# Altium footprint library Intercom Gen2 Main PCB.PcbLib: 115 footprints (part 7 of 8)
Each footprint in its own frame and in the unit in brackets; x right, y up, seen from the top. Pads: shape width x height; smd on the part's side, far side on the other; paste and mask are expansions set on the pad; w line width, h text height; cw(c..) or ccw(c..) is an arc to the next point about the centre after c.
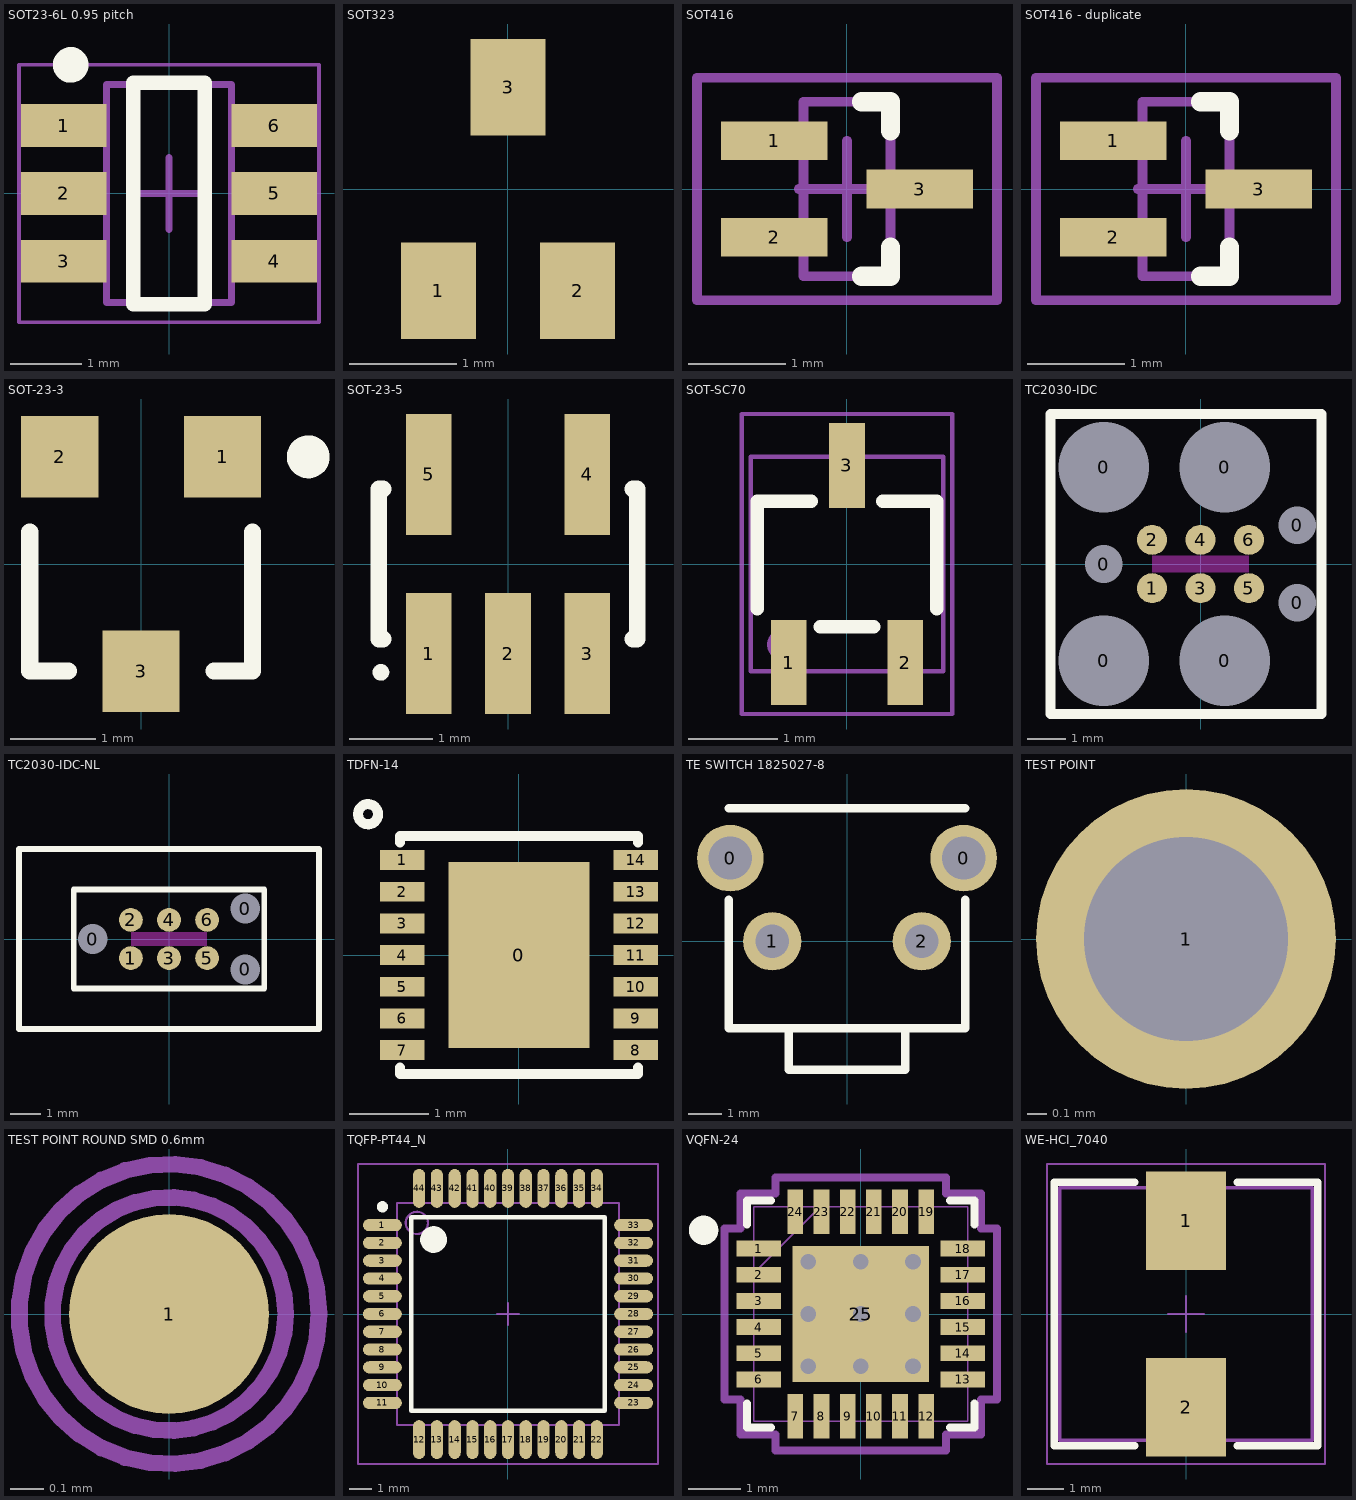
[diagram p6: the footprints below, top view; thin cyan lines are the x and y axes]

## SOT23-6L 0.95 pitch [mm] "SOT23, 6-Leads, Body 2.92x2.80mm, Pitch 0.95mm, IPC Medium Density"
height 1.1
pads (6):
  rect 1.2x0.6 smd: 1(-1.475,0.95) 2(-1.475,0) 3(-1.475,-0.95) 4(1.475,-0.95) 5(1.475,0) 6(1.475,0.95)
Top Overlay:
  circle w0.25: c-1.375,1.8 r0.125
  lines w0.2: -0.5,-1.55 -0.5,1.55 0.5,1.55 0.5,-1.55 -0.5,-1.55
Mechanical 13:
  lines w0.1: -0.875,-1.525 0.875,-1.525 0.875,1.525 -0.875,1.525 -0.875,-1.525
Mechanical 15:
  lines w0.05: -2.1,-1.8 2.1,-1.8 2.1,1.8 -2.1,1.8 -2.1,-1.8
  lines w0.1: -0.5,0 0.5,0 ; 0,-0.5 0,0.5
3D body: height 1.1, standoff 0.05, extent -0.875,-1.525 0.875,1.525

## SOT323 [mm]
pads (3):
  rect 0.7x0.9 smd paste-0.05: 1(-0.65,-0.95) 2(0.65,-0.95) 3(0,0.95)
3D body: height 1, standoff 0.1, extent -1.1,-0.675 1.1,0.675

## SOT416 [mm] "SOT416, 3-Leads, Body 1.6x0.8mm, Pitch 0.50mm, Lead Span 1.6mm, IPC Medium Density"
height 0.95
pads (3):
  rect 1.1x0.4 smd: 1(-0.75,0.5) 2(-0.75,-0.5) 3(0.75,0)
Top Overlay:
  lines w0.2: 0.15,-0.9 0.45,-0.9 0.45,-0.6 ; 0.15,0.9 0.45,0.9 0.45,0.6
Mechanical 13:
  lines w0.1: -0.45,-0.9 0.45,-0.9 0.45,0.9 -0.45,0.9 -0.45,-0.9
Mechanical 15:
  lines w0.1: -0.5,0 0.5,0 ; 0,-0.5 0,0.5 ; -1.55,-1.15 1.55,-1.15 1.55,1.15 -1.55,1.15 -1.55,-1.15
3D body: height 0.95, standoff 0, extent -0.45,-0.9 0.45,0.9

## SOT416 - duplicate [mm] "SOT416, 3-Leads, Body 1.6x0.8mm, Pitch 0.50mm, Lead Span 1.6mm, IPC Medium Density"
height 0.95
pads (3):
  rect 1.1x0.4 smd: 1(-0.75,0.5) 2(-0.75,-0.5) 3(0.75,0)
Top Overlay:
  lines w0.2: 0.15,-0.9 0.45,-0.9 0.45,-0.6 ; 0.15,0.9 0.45,0.9 0.45,0.6
Mechanical 13:
  lines w0.1: -0.45,-0.9 0.45,-0.9 0.45,0.9 -0.45,0.9 -0.45,-0.9
Mechanical 15:
  lines w0.1: -0.5,0 0.5,0 ; 0,-0.5 0,0.5 ; -1.55,-1.15 1.55,-1.15 1.55,1.15 -1.55,1.15 -1.55,-1.15
3D body: height 0.95, standoff 0, extent -0.45,-0.9 0.45,0.9

## SOT-23-3 [mm]
height 2.54
pads (3):
  rect 0.9x0.95 smd: 1(0.95,1.25) 2(-0.95,1.25) 3(0,-1.25)
Top Overlay:
  circle w0.25: c1.95,1.25 r0.125
  lines w0.2: -1.3,0.375 -1.3,-1.25 -0.85,-1.25 ; 0.85,-1.25 1.3,-1.25 1.3,0.375
3D body "SW3dPS-3-lead sot23-3.STEP": height 1.04, standoff 0.02, extent -1.454,-1.22 1.466,1.256

## SOT-23-5 [mm]
height 2.54
pads (5):
  rect 0.55x1.45 smd: 1(-0.95,-1.075) 2(0,-1.075) 3(0.95,-1.075) 4(0.95,1.075) 5(-0.95,1.075)
Top Overlay:
  circle w0.1: c-1.525,-1.3 r0.05
  lines w0.2: -1.5,-0.9 -1.55,-0.9 -1.55,0.9 -1.5,0.9 ; 1.5,-0.9 1.55,-0.9 1.55,0.9 1.5,0.9
3D body "SW3dPS-SOT23-5.STEP": height 1.12, standoff 0.02, extent -1.449,-1.4 1.45,1.4

## SOT-SC70 [mm] "SOT-SC70 (TI_DCK0003A) 3 leads-2.0x1.4x1.1mm, Maximum Density Courtyard. Datasheet: https://www.ti.com/lit/ml/mpds295g/mpds295g.pdf?ts=1765950302425&ref_url=https%253A%252F%252Fwww.google.com%252F"
height 1.1
pads (3):
  rect 0.4x0.95 smd mask+0.07: 1(-0.65,-1.1) 2(0.65,-1.1) 3(0,1.1)
Top Overlay:
  lines w0.15: -1,-0.5 -1,0.7 -0.4,0.7 ; -0.3,-0.7 0.3,-0.7 ; 0.4,0.7 1,0.7 1,-0.5
Top Assembly:
  circle w0.1: c-0.7,-0.9 r0.141
  lines w0.05: -1.075,-1.2 1.075,-1.2 1.075,1.2 -1.075,1.2 -1.075,-1.2
  text ".designator" at -2.499,-0.167 h0.5
Top Courtyard:
  lines w0.05: -1.175,-1.675 1.175,-1.675 1.175,1.675 -1.175,1.675 -1.175,-1.675
3D body "DCK0003A.stp": height 1, standoff 0, extent -1,-1.05 1,1.05

## TC2030-IDC [mm] "Tag-Connect 6-Pin with Legs (PN# TC2030-IDC-NL)"
pads (13):
  round 2.3 hole 2.375 unplated: 0(-2.54,-2.54) 0(-2.54,2.54) 0(0.635,-2.54) 0(0.635,2.54)
  round 0.9 hole 0.995 unplated: 0(-2.54,0) 0(2.54,-1.016) 0(2.54,1.016)
  round 0.79 smd paste-0.39: 1(-1.27,-0.635) 2(-1.27,0.635) 3(0,-0.635) 4(0,0.635) 5(1.27,-0.635) 6(1.27,0.635)
Top Layer keep-out:
  rectangle: -1.27,-0.225 1.27,0.225
Top Overlay:
  lines w0.254: -3.937,-3.937 3.175,-3.937 3.175,3.937 -3.937,3.937 -3.937,-3.937

## TC2030-IDC-NL [mm] "Tag-Connect 6-Pin with No Legs (PN# TC2030-IDC-NL)"
pads (9):
  round 0.9 hole 0.995 unplated: 0(-2.54,0) 0(2.54,-1.016) 0(2.54,1.016)
  round 0.79 smd paste-0.39: 1(-1.27,-0.635) 2(-1.27,0.635) 3(0,-0.635) 4(0,0.635) 5(1.27,-0.635) 6(1.27,0.635)
Top Layer keep-out:
  rectangle: -1.27,-0.225 1.27,0.225
Top Overlay:
  lines w0.2: -5,-3 -5,3 5,3 5,-3 -5,-3 ; -3.175,-1.651 3.175,-1.651 3.175,1.651 -3.175,1.651 -3.175,-1.651

## TDFN-14 [mm]
height 2.54
pads (15):
  rect 1.78x2.35 smd paste-25.4 mask-25.4: 0(0,0)
  rect 0.56x0.25 smd paste-25.4 mask-25.4: 1(-1.475,1.2) 2(-1.475,0.8) 3(-1.475,0.4) 4(-1.475,0) 5(-1.475,-0.4) 6(-1.475,-0.8) 7(-1.475,-1.2) 8(1.475,-1.2) 9(1.475,-0.8) 10(1.475,-0.4) 11(1.475,0) 12(1.475,0.4) 13(1.475,0.8) 14(1.475,1.2)
Top Overlay:
  circle w0.127: c-1.905,1.778 r0.127
  lines w0.127: -1.5,-1.422 -1.5,-1.5 1.5,-1.5 1.5,-1.422 ; -1.5,1.422 -1.5,1.5 1.5,1.5 1.5,1.422
Top Paste:
  region: 1.195,1.075 1.755,1.075 1.755,1.325 1.195,1.325
  region: 1.195,0.675 1.755,0.675 1.755,0.925 1.195,0.925
  region: 1.195,0.275 1.755,0.275 1.755,0.525 1.195,0.525
  region: 1.195,-0.125 1.755,-0.125 1.755,0.125 1.195,0.125
  region: 1.195,-0.525 1.755,-0.525 1.755,-0.275 1.195,-0.275
  region: 1.195,-0.925 1.755,-0.925 1.755,-0.675 1.195,-0.675
  region: 1.195,-1.325 1.755,-1.325 1.755,-1.075 1.195,-1.075
  region: -1.755,-1.325 -1.195,-1.325 -1.195,-1.075 -1.755,-1.075
  region: -1.755,-0.925 -1.195,-0.925 -1.195,-0.675 -1.755,-0.675
  region: -1.755,-0.525 -1.195,-0.525 -1.195,-0.275 -1.755,-0.275
  region: -1.755,-0.125 -1.195,-0.125 -1.195,0.125 -1.755,0.125
  region: -1.755,0.275 -1.195,0.275 -1.195,0.525 -1.755,0.525
  region: -1.755,0.675 -1.195,0.675 -1.195,0.925 -1.755,0.925
  region: -0.89,-1.175 0.89,-1.175 0.89,1.175 -0.89,1.175
  region: -1.755,1.075 -1.195,1.075 -1.195,1.325 -1.755,1.325
Top Solder:
  region: 1.195,1.075 1.755,1.075 1.755,1.325 1.195,1.325
  region: 1.195,0.675 1.755,0.675 1.755,0.925 1.195,0.925
  region: 1.195,0.275 1.755,0.275 1.755,0.525 1.195,0.525
  region: 1.195,-0.125 1.755,-0.125 1.755,0.125 1.195,0.125
  region: 1.195,-0.525 1.755,-0.525 1.755,-0.275 1.195,-0.275
  region: 1.195,-0.925 1.755,-0.925 1.755,-0.675 1.195,-0.675
  region: 1.195,-1.325 1.755,-1.325 1.755,-1.075 1.195,-1.075
  region: -1.755,-1.325 -1.195,-1.325 -1.195,-1.075 -1.755,-1.075
  region: -1.755,-0.925 -1.195,-0.925 -1.195,-0.675 -1.755,-0.675
  region: -1.755,-0.525 -1.195,-0.525 -1.195,-0.275 -1.755,-0.275
  region: -1.755,-0.125 -1.195,-0.125 -1.195,0.125 -1.755,0.125
  region: -1.755,0.275 -1.195,0.275 -1.195,0.525 -1.755,0.525
  region: -1.755,0.675 -1.195,0.675 -1.195,0.925 -1.755,0.925
  region: -0.89,-1.175 0.89,-1.175 0.89,1.175 -0.89,1.175
  region: -1.755,1.075 -1.195,1.075 -1.195,1.325 -1.755,1.325

## TE SWITCH 1825027-8 [mm] "Tactile Switch SPST-NO Side Actuated Through Hole 0.05A 24V, Right Angle"
height 7.01
pads (4):
  round 2 hole 1.3: 0(-3.505,2.5) 0(3.505,2.5)
  round 1.75 hole 1: 1(-2.245,0) 2(2.245,0)
Top Overlay:
  lines w0.254: -3.555,1.25 -3.555,-2.61 3.555,-2.61 3.555,1.25 ; -3.555,4 3.555,4 ; -1.75,-2.61 -1.75,-3.86 1.75,-3.86 1.75,-2.61
3D body "c-1825027-8-g-3d.stp": height 7.05, standoff -3.47, extent -4.204,-5.843 4.204,4

## TEST POINT [mm] "Scope Probe Test Point"
pads (1):
  round 1.555 hole 1.055: 1(0,0)

## TEST POINT ROUND SMD 0.6mm [mm]
pads (1):
  round 0.6 smd mask+0: 1(0,0)
Top Assembly:
  circle w0.05: c0,0 r0.35
Top Courtyard:
  circle w0.05: c0,0 r0.45

## TQFP-PT44_N [mm] "Thin QFP, 44-Leads, Body 10x10mm, Pitch 0.8mm, IPC Medium Density"
height 1.2
pads (44):
  oval 1.75x0.55 smd: 1(-5.65,4) 2(-5.65,3.2) 3(-5.65,2.4) 4(-5.65,1.6) 5(-5.65,0.8) 6(-5.65,0) 7(-5.65,-0.8) 8(-5.65,-1.6) 9(-5.65,-2.4) 10(-5.65,-3.2) 11(-5.65,-4) 23(5.65,-4) 24(5.65,-3.2) 25(5.65,-2.4) 26(5.65,-1.6) 27(5.65,-0.8) 28(5.65,0) 29(5.65,0.8) 30(5.65,1.6) 31(5.65,2.4) 32(5.65,3.2) 33(5.65,4)
  oval 0.55x1.75 smd: 12(-4,-5.65) 13(-3.2,-5.65) 14(-2.4,-5.65) 15(-1.6,-5.65) 16(-0.8,-5.65) 17(0,-5.65) 18(0.8,-5.65) 19(1.6,-5.65) 20(2.4,-5.65) 21(3.2,-5.65) 22(4,-5.65) 34(4,5.65) 35(3.2,5.65) 36(2.4,5.65) 37(1.6,5.65) 38(0.8,5.65) 39(0,5.65) 40(-0.8,5.65) 41(-1.6,5.65) 42(-2.4,5.65) 43(-3.2,5.65) 44(-4,5.65)
Top Overlay:
  circle w0.6: c-3.35,3.35 r0.3
  circle w0.25: c-5.65,4.825 r0.125
  lines w0.2: -4.35,-4.35 4.35,-4.35 4.35,4.35 -4.35,4.35 -4.35,-4.35
Mechanical 13:
  circle w0.1: c-4.1,4.1 r0.5
  lines w0.1: -5,-5 5,-5 5,5 -5,5 -5,-5
Mechanical 15:
  lines w0.1: -0.5,0 0.5,0 ; 0,-0.5 0,0.5 ; -6.75,-6.75 6.75,-6.75 6.75,6.75 -6.75,6.75 -6.75,-6.75
3D body: height 1.2, standoff 0, extent -5,-5 5,5

## VQFN-24 [mm] "24 No Lead, 4x4x0.9mm body, 0.5mm pitch, 2.6x2.6mm ePAD"
height 1
pads (25):
  rect 0.85x0.3 smd paste+0 mask+0.05: 1(-1.95,1.25) 2(-1.95,0.75) 3(-1.95,0.25) 4(-1.95,-0.25) 5(-1.95,-0.75) 6(-1.95,-1.25) 13(1.95,-1.25) 14(1.95,-0.75) 15(1.95,-0.25) 16(1.95,0.25) 17(1.95,0.75) 18(1.95,1.25)
  rect 0.3x0.85 smd paste+0 mask+0.05: 7(-1.25,-1.95) 8(-0.75,-1.95) 9(-0.25,-1.95) 10(0.25,-1.95) 11(0.75,-1.95) 12(1.25,-1.95) 19(1.25,1.95) 20(0.75,1.95) 21(0.25,1.95) 22(-0.25,1.95) 23(-0.75,1.95) 24(-1.25,1.95)
  rect 2.6x2.6 smd paste-1.283 mask+0.05: 25(0,0)
via 1,1 diameter 0.5 hole 0.3
via 1,-1 diameter 0.5 hole 0.3
via 1,0 diameter 0.5 hole 0.3
via 0,0 diameter 0.5 hole 0.3
via 0,-1 diameter 0.5 hole 0.3
via -1,-1 diameter 0.5 hole 0.3
via -1,0 diameter 0.5 hole 0.3
via 0,1 diameter 0.5 hole 0.3
via -1,1 diameter 0.5 hole 0.3
Top Overlay:
  circle w0.305: c-3,1.6 r0.127
  lines w0.152: -2.172,-1.71 -2.172,-2.172 -1.71,-2.172 ; -2.172,1.71 -2.172,2.172 -1.71,2.172 ; 1.71,-2.172 2.172,-2.172 2.172,-1.71 ; 1.71,2.172 2.172,2.172 2.172,1.71
Top Paste:
  region: 1.195,-0.1 0.1,-0.1 0.1,-1.195 1.195,-1.195
  region: 1.195,1.195 0.1,1.195 0.1,0.1 1.195,0.1
  region: -0.1,-0.1 -1.195,-0.1 -1.195,-1.195 -0.1,-1.195
  region: -0.1,1.195 -1.195,1.195 -1.195,0.1 -0.1,0.1
Mechanical 13:
  lines w0.025: -2.045,0.775 -0.775,2.045 ; -2.045,-2.045 -2.045,2.045 2.045,2.045 2.045,-2.045 -2.045,-2.045 ; -2.045,-1.402 -2.045,-1.098 -2.045,-1.402 ; -2.045,-0.902 -2.045,-0.598 -2.045,-0.902 ; -2.045,-0.402 -2.045,-0.098 -2.045,-0.402 ; -2.045,0.098 -2.045,0.402 -2.045,0.098 ; -2.045,0.598 -2.045,0.902 -2.045,0.598 ; -2.045,1.098 -2.045,1.402 -2.045,1.098 ; -1.402,-2.045 -1.098,-2.045 -1.402,-2.045 ; -1.402,2.045 -1.098,2.045 -1.402,2.045 ; -0.902,-2.045 -0.598,-2.045 -0.902,-2.045 ; -0.902,2.045 -0.598,2.045 -0.902,2.045 ; -0.402,-2.045 -0.098,-2.045 -0.402,-2.045 ; -0.402,2.045 -0.098,2.045 -0.402,2.045 ; 0.098,-2.045 0.402,-2.045 0.098,-2.045 ; 0.098,2.045 0.402,2.045 0.098,2.045 ; 0.598,-2.045 0.902,-2.045 0.598,-2.045 ; 0.598,2.045 0.902,2.045 0.598,2.045 ; 1.098,-2.045 1.402,-2.045 1.098,-2.045 ; 1.098,2.045 1.402,2.045 1.098,2.045 ; 2.045,-1.402 2.045,-1.098 2.045,-1.402 ; 2.045,-0.902 2.045,-0.598 2.045,-0.902 ; 2.045,-0.402 2.045,-0.098 2.045,-0.402 ; 2.045,0.098 2.045,0.402 2.045,0.098 ; 2.045,0.598 2.045,0.902 2.045,0.598 ; 2.045,1.098 2.045,1.402 2.045,1.098
Mechanical 15:
  lines w0.152: -2.603,-1.631 -2.603,1.631 -2.299,1.631 -2.299,2.299 -1.631,2.299 -1.631,2.603 1.631,2.603 1.631,2.299 2.299,2.299 2.299,1.631 2.603,1.631 2.603,-1.631 2.299,-1.631 2.299,-2.299 1.631,-2.299 1.631,-2.603 -1.631,-2.603 -1.631,-2.299 -2.299,-2.299 -2.299,-1.631 -2.603,-1.631
3D body "SQFN24_4X4MC_MCH-M.step": height 1.4, standoff 0, extent -2.045,-2.045 2.045,2.045

## WE-HCI_7040 [mm] "SMT Flat Wire High Current Inductor, body 6.9x6.9mm"
height 3.8
pads (2):
  rect 2.2x2.7 smd: 1(0,2.55) 2(0,-2.55)
Top Overlay:
  lines w0.2: -1.4,-3.6 -3.6,-3.6 -3.6,3.6 -1.4,3.6 ; 1.4,-3.6 3.6,-3.6 3.6,3.6 1.4,3.6
Mechanical 13:
  lines w0.1: -3.45,-3.45 -3.45,3.45 3.45,3.45 3.45,-3.45 -3.45,-3.45
Mechanical 15:
  lines w0.05: -0.5,0 0.5,0 ; 0,-0.5 0,0.5 ; -3.8,-4.1 -3.8,4.1 3.8,4.1 3.8,-4.1 -3.8,-4.1
3D body "744311xxx.stp": height 4, standoff 0, extent -3.45,-3.5 3.45,3.5